# Altium schematic symbol library ToradexMainBoard-V0I1.SCHLIB: 303 symbols (part 7 of 14)
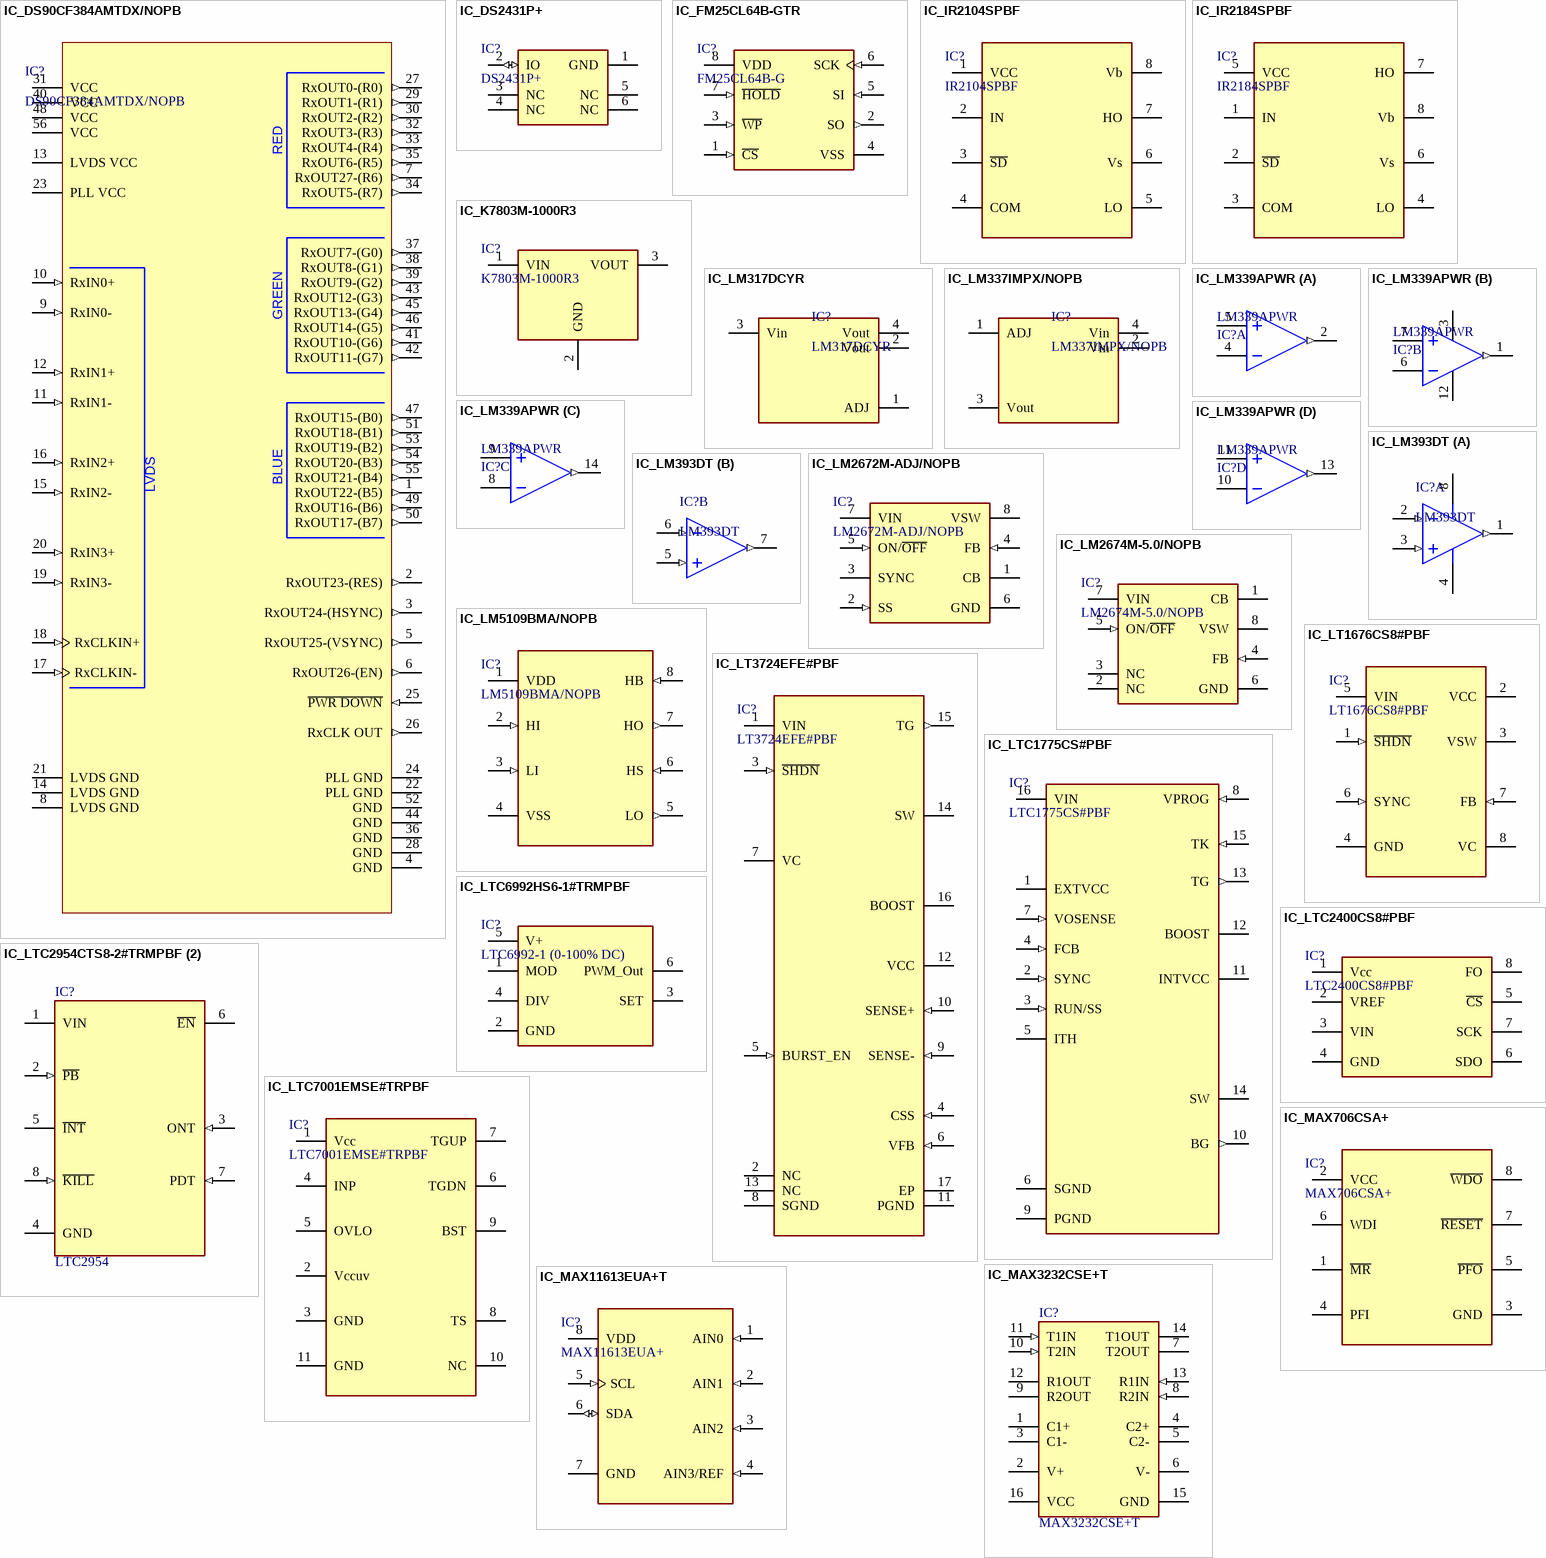
[diagram p21: symbols IC_DS90CF384AMTDX/NOPB to IC_MAX11613EUA+T]

## IC_FM25CL64B-GTR
designator IC?, comment FM25CL64B-G
NVRAM FRAM Serial-SPI 64K-Bit 3V/3.3V 8-Pin SOIC T/R; Manufacturer: Cypress; Manufacturer Part Number: FM25CL64B-GTR; Interface: SPI,Serial; Density: 64Kb; Operating Supply Voltage: 3.3V; Memory Type: RAM,FRAM; Frequency: 20MHz; Data Bus Width: 8b; Max Supply Voltage: 3.65V; Min Supply Voltage: 2.7V; Nominal Supply Current: 3mA; Access Time: 20ns; Organization: 8KX8; Supplier 1: Mouser; RoHS: Yes; Category: Memory; Mount: Surface Mount; Case/Package: SOIC; Number of Pins: 8; Contact Plating: Tin,Matte; Min Operating Temperature: -40°C; Max Operating Temperature: 85°C; Packaging: Tape and Reel; Package Quantity: 2500; Memory Size: 64KB; Supply Current: 3mA; Word Size: 8b; Series: -; Access Time-Max: 20ns; Supply Voltage-Nom: 3.65V; Radiation Hardening: No; Lead Free: Lead Free; RoHS Compliant: Yes; ComponentLink1URL: https://datasheet.ciiva.com/15125/getdatasheetpartid-702869-15125206.pdf?src-supplier=Verical; ComponentLink1Description: https://datasheet.ciiva.com/15125/getdatasheetpartid-702869-15125206.pdf?src-supplier=Verical; ComponentLink2URL: https://datasheet.ciiva.com/12095/fm25cl64b-001-84477-0e-v-477223-12095418.pdf?src-supplier=Mouser; ComponentLink2Description: https://datasheet.ciiva.com/12095/fm25cl64b-001-84477-0e-v-477223-12095418.pdf?src-supplier=Mouser; ComponentLink3URL: https://datasheet.ciiva.com/6616/docid-47959-6616076.pdf?src-supplier=Digi-Key; ComponentLink3Description: https://datasheet.ciiva.com/6616/docid-47959-6616076.pdf?src-supplier=Digi-Key; Supplier Part Number 1: 877-FM25CL64B-GTR
footprint FM25CL64B-SOIC8
pins: 1 ~{CS} (in), 2 SO (out), 3 ~{WP} (in), 4 VSS (power), 5 SI (in), 6 SCK (in), 7 ~{HOLD} (in), 8 VDD (power)

## IC_IR2104SPBF
designator IC?, comment IR2104SPBF
INFINEON - IR2104SPBF - IC, MOSFET-TREIBER, HIGH/LOW-SIDE SOIC-8; Manufacturer: International Rectifier; Number of Outputs: 2; Min Supply Voltage: 10V; Max Supply Voltage: 20V; Max Power Dissipation: 625mW; Turn-On Delay Time: 60ns; Max Supply Current: 270uA; Max Output Current: 360mA; Output Voltage: 620V; Rise Time: 170ns; Propagation Delay: 820ns; Nominal Supply Current: 150uA; Fall Time: 90ns; Turn-Off Delay Time: 220ns; Supplier 1: Farnell; Manufacturer Part Number: IR2104SPBF; RoHS: Yes; Category: Gate Drivers; Stock 1: 577; Pricing 1: 1=1,69000, 25=1,59000, 50=1,41000, 100=1,22000, 250=1,11000, 500=1,08000, 1000=0,92200, 2500=0,90400 (EUR); Mount: Surface Mount; Case/Package: SOIC; Number of Pins: 8; Min Operating Temperature: -40°C; Max Operating Temperature: 125°C; Packaging: Rail/Tube; Package Quantity: 95; Output Current: 360mA; Number of Drivers: 2; Power Dissipation: 625mW; Max Output Voltage: 20V; Min Output Voltage: 10V; Termination: SMD/SMT; Length: 5mm; Width: 4mm; Height: 1.5mm; Radiation Hardening: No; REACH SVHC: No SVHC; Lead Free: Lead Free; ComponentLink1URL: https://datasheet.ciiva.com/26879/ir2104spbf-26879345.pdf?src-supplier=IIIC; ComponentLink1Description: https://datasheet.ciiva.com/26879/ir2104spbf-26879345.pdf?src-supplier=IIIC; ComponentLink2URL: https://datasheet.ciiva.com/1952/ir2104-1952453.pdf?src-supplier=Digi-Key; ComponentLink2Description: https://datasheet.ciiva.com/1952/ir2104-1952453.pdf?src-supplier=Digi-Key; ComponentLink3URL: https://datasheet.ciiva.com/1499/59961-1499395.pdf?src-supplier=Element14; ComponentLink3Description: https://datasheet.ciiva.com/1499/59961-1499395.pdf?src-supplier=Element14; Supplier Part Number 1: 8638756
footprint IR2104_SOIC8
pins: 1 VCC (power) "Power Supply Input: 2.7V to 26.4V", 2 IN (power) "Power Supply Input: 2.7V to 26.4V", 3 ~{SD} (power) "Power Supply Input: 2.7V to 26.4V", 4 COM (power) "Power Supply Input: 2.7V to 26.4V", 5 LO (power) "Power Supply Input: 2.7V to 26.4V", 6 Vs (power) "Power Supply Input: 2.7V to 26.4V", 7 HO (power) "Power Supply Input: 2.7V to 26.4V", 8 Vb (power) "Power Supply Input: 2.7V to 26.4V"

## IC_IR2184SPBF
designator IC?, comment IR2184SPBF
Driver 600V 2.3A 2-OUT Hi/Lo Side Half Brdg Inv/Non-Inv 8-Pin SOIC; Manufacturer: International Rectifier; Number of Outputs: 2; Max Supply Voltage: 20V; Min Supply Voltage: 10V; Max Power Dissipation: 625mW; Turn-On Delay Time: 90ns; Turn-Off Delay Time: 40ns; Max Supply Current: 1.6mA; Propagation Delay: 900ns; Rise Time: 60ns; Output Current: 1.9A; Fall Time: 35ns; Output Voltage: 620V; Supplier 1: Farnell; Manufacturer Part Number: IR2184SPBF; RoHS: Yes; Category: Gate Drivers; Stock 1: 584; Pricing 1: 1=3,18000, 10=2,39000, 25=2,25000, 50=2,10000, 100=1,96000, 250=1,76000, 500=1,69000, 1000=1,44000 (EUR); Mount: Surface Mount; Case/Package: SOIC; Number of Pins: 8; Min Operating Temperature: -40°C; Max Operating Temperature: 125°C; Packaging: Rail/Tube; Package Quantity: 95; Number of Drivers: 2; Power Dissipation: 625mW; Max Output Current: 2.3A; Nominal Supply Current: 1.6mA; Max Output Voltage: 20V; Min Output Voltage: 10V; Termination: SMD/SMT; Length: 5mm; Width: 4mm; Height: 1.5mm; Radiation Hardening: No; Lead Free: Lead Free; REACH SVHC: No SVHC; ComponentLink1URL: https://datasheet.ciiva.com/1952/ir2184-1952950.pdf?src-supplier=Digi-Key; ComponentLink1Description: https://datasheet.ciiva.com/1952/ir2184-1952950.pdf?src-supplier=Digi-Key; ComponentLink2URL: https://datasheet.ciiva.com/1499/60017-1499709.pdf?src-supplier=Element14; ComponentLink2Description: https://datasheet.ciiva.com/1499/60017-1499709.pdf?src-supplier=Element14; Supplier Part Number 1: 8639051
footprint IR2184_SOIC8
pins: 1 IN (power) "Power Supply Input: 2.7V to 26.4V", 2 ~{SD} (power) "Power Supply Input: 2.7V to 26.4V", 3 COM (power) "Power Supply Input: 2.7V to 26.4V", 4 LO (power) "Power Supply Input: 2.7V to 26.4V", 5 VCC (power) "Power Supply Input: 2.7V to 26.4V", 6 Vs (power) "Power Supply Input: 2.7V to 26.4V", 7 HO (power) "Power Supply Input: 2.7V to 26.4V", 8 Vb (power) "Power Supply Input: 2.7V to 26.4V"

## IC_K7803M-1000R3
designator IC?, comment K7803M-1000R3
Nichtisoliertes PoL-Modul DC/DC-Wandler 1 Ausgang 3,3V 1A 6V - 36V Eingang
footprint IC_K7803M-1000R3_THT (Pin Header, pitch 2.54 mm, THT, Vertical, single row, 3p)
pins: 1 VIN (power) "A-side supplyVoltage (0.9V to VCCB - 1V)", 2 GND (power) "Supply ground", 3 VOUT (power) "B-side and device supplyVoltage (2.7V to 5.5V)"

## IC_LM317DCYR
designator IC?, comment LM317DCYR
TEXAS INSTRUMENTS - LM317DCYR - LINEAR VOLT REG, 1.5A, 1.25V-37V, SOT223; Number of Outputs: 1; Min Input Voltage: 4.2V; Output Voltage: 37V; Max Input Voltage: 40V; Polarity: Positive; Reference Voltage: 1.3V; Power Supply Rejection Ratio (PSRR): 64dB; Quiescent Current: 3.5mA; Output Type: Adjustable; Min Output Voltage: 1.25V; Dropout Voltage: 2V; Supplier 1: Mouser; Manufacturer: Texas Instruments; Manufacturer Part Number: LM317DCYR; RoHS: Yes; Category: Voltage Regulators - Linear; Stock 1: 625; Mount: Surface Mount; Case/Package: SOT-223; Number of Pins: 4; Weight: 0.006632oz; Contact Plating: Tin,Matte; Min Operating Temperature: 0°C; Max Operating Temperature: 125°C; Packaging: Tape and Reel; Output Current: 1.5A; Max Output Current: 1.5A; Package Quantity: 1; Number of Regulators: 1; Max Output Voltage: 37V; Length: 6.5mm; Width: 3.5mm; Height: 1.6mm; Radiation Hardening: No; Lead Free: Lead Free; RoHS Compliant: Yes; REACH SVHC: No SVHC; ComponentLink1URL: https://datasheet.ciiva.com/2042/lm317-2042144.pdf?src-supplier=Digi-Key; ComponentLink1Description: https://datasheet.ciiva.com/2042/lm317-2042144.pdf?src-supplier=Digi-Key; ComponentLink2URL: https://datasheet.ciiva.com/4882/slvs044u-120651-4882417.pdf?src-supplier=Mouser; ComponentLink2Description: https://datasheet.ciiva.com/4882/slvs044u-120651-4882417.pdf?src-supplier=Mouser; ComponentLink3URL: https://datasheet.ciiva.com/41458/001014031-da-01-en-ic-reg-adj-1-5a-lm317dcyr-sot-223-4-tid-41458183.pdf?src-supplier=Conrad; ComponentLink3Description: https://datasheet.ciiva.com/41458/001014031-da-01-en-ic-reg-adj-1-5a-lm317dcyr-sot-223-4-tid-41458183.pdf?src-supplier=Conrad; ComponentLink4URL: https://datasheet.ciiva.com/2042/lm317-2042145.pdf?src-supplier=Digi-Key; ComponentLink4Description: https://datasheet.ciiva.com/2042/lm317-2042145.pdf?src-supplier=Digi-Key; ComponentLink5URL: https://datasheet.ciiva.com/2042/lm317-2042146.pdf?src-supplier=Digi-Key; ComponentLink5Description: https://datasheet.ciiva.com/2042/lm317-2042146.pdf?src-supplier=Digi-Key; ComponentLink6URL: https://datasheet.ciiva.com/46385/1885815-46385689.pdf?src-supplier=Element14; ComponentLink6Description: https://datasheet.ciiva.com/46385/1885815-46385689.pdf?src-supplier=Element14; Supplier Part Number 1: 595-LM317DCYR
footprint LM317DCYR_SOT-223
pins: 1 ADJ (power) "A-side supplyVoltage (0.9V to VCCB - 1V)", 2 Vout (power) "Supply ground", 3 Vin (power) "B-side and device supplyVoltage (2.7V to 5.5V)", 4 Vout (power) "B-side and device supplyVoltage (2.7V to 5.5V)"

## IC_LM337IMPX/NOPB
designator IC?, comment LM337IMPX/NOPB
Standard Regulator Neg -1.2V to -37V 1A 4-Pin(3+Tab) SOT-223 T/R; Manufacturer: TI National Semiconductor; Max Power Dissipation: 2W; Number of Outputs: 1; Max Input Voltage: -50V; Min Input Voltage: -4.2V; Polarity: Negative; Reference Voltage: -1.287V; Output Type: Adjustable; Min Current Limit: 1.5A; Quiescent Current: 3mA; Dropout Voltage: 2.4V; Power Supply Rejection Ratio (PSRR): 77dB; Supplier 1: Mouser; Manufacturer Part Number: LM337IMPX/NOPB; RoHS: Yes; Category: Voltage Regulators - Linear; Stock 1: 3007; Mount: Surface Mount; Case/Package: SOT-223; Number of Pins: 4; Weight: 0.006632oz; Contact Plating: Tin,Matte; Min Operating Temperature: -40°C; Max Operating Temperature: 125°C; Output Voltage: -37V; Max Output Current: 1A; Packaging: Tape and Reel; Output Current: 1A; Number of Regulators: 1; Power Dissipation: 2W; Min Output Voltage: -37V; Max Output Voltage: -1.2V; Series: LM337-N; Radiation Hardening: No; Lead Free: Lead Free; REACH SVHC: No SVHC; RoHS Compliant: Yes; ComponentLink1URL: https://datasheet.ciiva.com/6580/lm137-6580213.pdf?src-supplier=Digi-Key; ComponentLink1Description: https://datasheet.ciiva.com/6580/lm137-6580213.pdf?src-supplier=Digi-Key; ComponentLink2URL: https://datasheet.ciiva.com/15222/getdatasheetpartid-55431-15222917.pdf?src-supplier=Verical; ComponentLink2Description: https://datasheet.ciiva.com/15222/getdatasheetpartid-55431-15222917.pdf?src-supplier=Verical; ComponentLink3URL: https://datasheet.ciiva.com/3225/lm137-3225386.pdf?src-supplier=Avnet; ComponentLink3Description: https://datasheet.ciiva.com/3225/lm137-3225386.pdf?src-supplier=Avnet; ComponentLink4URL: https://datasheet.ciiva.com/46419/1772306-46419371.pdf?src-supplier=Element14; ComponentLink4Description: https://datasheet.ciiva.com/46419/1772306-46419371.pdf?src-supplier=Element14; Supplier Part Number 1: 926-LM337IMPX/NOPB
footprint LM337IMPX_SOT-223
pins: 1 ADJ (power) "A-side supplyVoltage (0.9V to VCCB - 1V)", 2 Vin (power) "Supply ground", 3 Vout (power) "B-side and device supplyVoltage (2.7V to 5.5V)", 4 Vin (power) "B-side and device supplyVoltage (2.7V to 5.5V)"

## IC_LM339APWR
designator IC?, comment LM339APWR
IC QUAD DIFF COMPARATOR 14-TSSOP; Manufacturer: Texas Instruments; Output Current: 20mA; Dual Supply Voltage: 9V; Operating Supply Voltage: 28V; Input Bias Current: 250nA; Output Type: TTL; Supply Current: 2mA; Max Dual Supply Voltage: 15V; Max Supply Current: 500uA; Output Current per Channel: 6mA; Number of Elements: 4; Voltage Gain: 106.02dB; Response Time: 1.3us; Min Supply Voltage: 2V; Quiescent Current: 2.5mA; Min Dual Supply Voltage: 1V; Output Compatibility: CMOS; Max Supply Voltage: 30V; Input Offset Voltage (Vos): 3mV; Lead Free: Lead Free; Radiation Hardening: No; REACH SVHC: No SVHC; Max Operating Temperature: 70°C; Max Input Current: 250nA; Packaging: Tape and Reel; Mount: Surface Mount; Height: 1.15mm; Case/Package: TSSOP; Nominal Supply Current: 2mA; Length: 5mm; Min Operating Temperature: 0°C; RoHS Compliant: Yes; Number of Channels: 4; Weight: 0.002018oz; Technology: BIPOLAR; Contact Plating: Gold; Width: 4.4mm; Series: LM339A; Package Quantity: 2000; Number of Pins: 14; Supplier 1: Mouser; Manufacturer Part Number: LM339APWR; RoHS: Yes; Category: Comparators; ComponentLink1URL: https://datasheet.ciiva.com/15131/getdatasheetpartid-301063-15131173.pdf?src-supplier=Verical; ComponentLink1Description: https://datasheet.ciiva.com/15131/getdatasheetpartid-301063-15131173.pdf?src-supplier=Verical; ComponentLink2URL: https://datasheet.ciiva.com/23702/1762850-23702272.pdf?src-supplier=Newark; ComponentLink2Description: https://datasheet.ciiva.com/23702/1762850-23702272.pdf?src-supplier=Newark; ComponentLink3URL: https://datasheet.ciiva.com/1827/lm139a-1827234.pdf?src-supplier=Digi-Key; ComponentLink3Description: https://datasheet.ciiva.com/1827/lm139a-1827234.pdf?src-supplier=Digi-Key; ComponentLink4URL: https://datasheet.ciiva.com/1827/lm139a-1827235.pdf?src-supplier=Digi-Key; ComponentLink4Description: https://datasheet.ciiva.com/1827/lm139a-1827235.pdf?src-supplier=Digi-Key; ComponentLink5URL: https://datasheet.ciiva.com/1827/lm139a-1827236.pdf?src-supplier=Digi-Key; ComponentLink5Description: https://datasheet.ciiva.com/1827/lm139a-1827236.pdf?src-supplier=Digi-Key; ComponentLink6URL: https://datasheet.ciiva.com/22657/1874704-22657660.pdf?src-supplier=Element14; ComponentLink6Description: https://datasheet.ciiva.com/22657/1874704-22657660.pdf?src-supplier=Element14; ComponentLink7URL: https://datasheet.ciiva.com/2970/lm2901-2970482.pdf?src-supplier=Avnet; ComponentLink7Description: https://datasheet.ciiva.com/2970/lm2901-2970482.pdf?src-supplier=Avnet; Supplier Part Number 1: 595-LM339APWR
footprint LM339APWR_TSSOP14
part A pins: 2 2OUT (out), 4 2IN- (hiz), 5 2IN+ (hiz)
part B pins: 1 1OUT (out), 3 VCC (power), 6 1IN- (hiz), 7 1IN+ (hiz), 12 GND (power)
part C pins: 8 3IN- (hiz), 9 3IN+ (hiz), 14 OUT3 (out)
part D pins: 10 4IN- (hiz), 11 4IN+ (hiz), 13 OUT4 (out)

## IC_LM393DT
designator IC?, comment LM393DT
Comparator Dual 18V/36V 8-Pin SO N T/R; Manufacturer: STMicroelectronics; Voltage - Supply, Single/Dual (±): 2V~36V,±1V~18V; Current - Input Bias (Max): 0.25µA@5V; Number of Elements: 2; Current - Output (Typ): 18mA@5V; Other Names: 497-1593-2; Voltage - Input Offset (Max): 5mV@30V; Output Type: CMOS,DTL,ECL,MOS,Open-Collector,TTL; EDA / CAD Models: DownloadfromAcceleratedDesigns; Other Related Documents: LM393ViewAllSpecificationsLM393ViewAllSpecifications; Online Catalog: Comparators-2elements; Current - Quiescent (Max): 2.5mA; Nominal Supply Current: 1mA; Voltage Gain: 106.02dB; Min Supply Voltage: 2V; Max Supply Voltage: 36V; Min Dual Supply Voltage: 1V; Max Dual Supply Voltage: 18V; Output Current: 18mA; Input Offset Voltage (Vos): 5mV; Input Bias Current: 250nA; Response Time: 1.3us; Operating Supply Voltage: 28V; Dual Supply Voltage: 9V; Max Power Dissipation: 710mW; Natural Thermal Resistance: 125°C/W; Standard Package: 2,500; Manufacturer URL: http://www.st.com/; Package Description: 8-Pin Small Outline Integrated Circuit, Body 4.9 x 3.9 mm, Pitch 1.27 mm; Packaging: Tape&Reel(TR); Datasheet Version: Rev. 15, 02/2016; Category: IntegratedCircuits(ICs); Operating Temperature: 0°C~70°C; Mounting Type: SurfaceMount; Supplier Device Package: 8-SO; Datasheet URL: http://www.st.com/content/ccc/resource/technical/document/datasheet/group1/b4/cc/cf/13/18/28/44/f5/CD00000465/files/CD00000465.pdf/jcr:content/translations/en.CD00000465.pdf; Family: Linear-Comparators; Mounting Technology: SurfaceMount; Type: GeneralPurpose; Package Reference: SO-8; Package / Case: 8-SOIC(0.154",3.90mmWidth); Supplier 1: Farnell; Manufacturer Part Number: LM393DT; RoHS: Yes; Pricing 1: 5=0,28900, 50=0,21300, 100=0,13900, 500=0,11900, 1000=0,09910 (EUR); Mount: Surface Mount; Case/Package: SO; Number of Pins: 8; Weight: 0.01787oz; Contact Plating: Gold; Min Operating Temperature: 0°C; Max Operating Temperature: 70°C; Number of Channels: 2; Quiescent Current: 2.5mA; Package Quantity: 2500; Max Supply Current: 1mA; Output Current per Channel: 18mA; Max Input Current: 250nA; Series: LM393; Propagation Delay: 1.3us; Turn-On Delay Time: 1.3us; Length: 4.9mm; Width: 3.9mm; Height: 1.25mm; Radiation Hardening: No; REACH SVHC: No SVHC; Lead Free: Lead Free; RoHS Compliant: Yes; ComponentLink1URL: https://datasheet.ciiva.com/15131/getdatasheetpartid-302604-15131176.pdf?src-supplier=Verical; ComponentLink1Description: https://datasheet.ciiva.com/15131/getdatasheetpartid-302604-15131176.pdf?src-supplier=Verical; ComponentLink2URL: https://datasheet.ciiva.com/14153/lm393-st-tds-eng-14153514.pdf?src-supplier=Distrelec; ComponentLink2Description: https://datasheet.ciiva.com/14153/lm393-st-tds-eng-14153514.pdf?src-supplier=Distrelec; ComponentLink3URL: https://datasheet.ciiva.com/26859/lm393dt-26859249.pdf?src-supplier=IIIC; ComponentLink3Description: https://datasheet.ciiva.com/26859/lm393dt-26859249.pdf?src-supplier=IIIC; ComponentLink4URL: https://datasheet.ciiva.com/1827/cd00000465-1827142.pdf?src-supplier=Digi-Key; ComponentLink4Description: https://datasheet.ciiva.com/1827/cd00000465-1827142.pdf?src-supplier=Digi-Key; ComponentLink5URL: https://datasheet.ciiva.com/1827/cd00000465-1827143.pdf?src-supplier=Digi-Key; ComponentLink5Description: https://datasheet.ciiva.com/1827/cd00000465-1827143.pdf?src-supplier=Digi-Key; ComponentLink6URL: https://datasheet.ciiva.com/1827/cd00000465-1827144.pdf?src-supplier=Digi-Key; ComponentLink6Description: https://datasheet.ciiva.com/1827/cd00000465-1827144.pdf?src-supplier=Digi-Key; ComponentLink7URL: https://datasheet.ciiva.com/2970/cd00000465-2970521.pdf?src-supplier=Avnet; ComponentLink7Description: https://datasheet.ciiva.com/2970/cd00000465-2970521.pdf?src-supplier=Avnet; ComponentLink8URL: https://datasheet.ciiva.com/4463/cd00000465-4463849.pdf?src-supplier=Mouser; ComponentLink8Description: https://datasheet.ciiva.com/4463/cd00000465-4463849.pdf?src-supplier=Mouser; ComponentLink9URL: https://datasheet.ciiva.com/8067/1689826-8067369.pdf?src-supplier=Element14; ComponentLink9Description: https://datasheet.ciiva.com/8067/1689826-8067369.pdf?src-supplier=Element14; ComponentLink10URL: https://datasheet.ciiva.com/1483/1689826-1483069.pdf?src-supplier=Element14; ComponentLink10Description: https://datasheet.ciiva.com/1483/1689826-1483069.pdf?src-supplier=Element14; ComponentLink11URL: https://datasheet.ciiva.com/16387/cd00000465-16387359.pdf?src-supplier=Future+Electronics; ComponentLink11Description: https://datasheet.ciiva.com/16387/cd00000465-16387359.pdf?src-supplier=Future+Electronics; ComponentLink12URL: https://datasheet.ciiva.com/28649/1689826-28649295.pdf?src-supplier=Element14; ComponentLink12Description: https://datasheet.ciiva.com/28649/1689826-28649295.pdf?src-supplier=Element14; Supplier Part Number 1: 2382619
footprint LM393DT_SOIC8
part A pins: 1 OUT1 (out), 2 IN1- (in), 3 IN1+ (in), 4 -, 8 +
part B pins: 5 IN2+ (in), 6 IN2- (in), 7 OUT2 (out)

## IC_LM2672M-ADJ/NOPB
designator IC?, comment LM2672M-ADJ/NOPB
STEP-DOWN REGULATOR, 8-SOIC; Input Voltage Min:6.5V; Input Voltage Max:40V; No. of Outputs:1; DC / DC Converter IC Case:SOIC; No. of Pins:8; Output Current:1A; Output Voltage Min:1.21V; Output Voltage Max:37V; Packaging:Cut Tape ;RoHS Compliant: Yes; Manufacturer: TI National Semiconductor; Number of Outputs: 1; Output Voltage: 37V; Max Output Current: 1A; Min Input Voltage: 8V; Max Input Voltage: 40V; Efficiency: 90%; Switching Frequency: 260kHz; Min Output Voltage: 1.21V; Quiescent Current: 2.5mA; Output Type: Adjustable; Supplier 1: Farnell; Manufacturer Part Number: LM2672M-ADJ/NOPB; RoHS: Yes; Category: Voltage Regulators - Switching; Stock 1: 1319; Pricing 1: 1=5,11000, 10=4,12000, 25=3,89000, 50=3,55000, 100=3,20000, 250=2,87000, 500=2,76000 (EUR); Mount: Surface Mount; Case/Package: SOIC; Number of Pins: 8; Contact Plating: Tin,Matte; Min Operating Temperature: -40°C; Max Operating Temperature: 125°C; Packaging: Rail/Tube; Output Current: 1A; Package Quantity: 95; Max Output Voltage: 37V; Operating Supply Voltage: 40V; Voltage: 37V; Length: 4.9mm; Width: 3.9mm; Height: 1.45mm; Radiation Hardening: No; REACH SVHC: No SVHC; Lead Free: Lead Free; ComponentLink1URL: https://datasheet.ciiva.com/15112/getdatasheetpartid-112288-15112920.pdf?src-supplier=Verical; ComponentLink1Description: https://datasheet.ciiva.com/15112/getdatasheetpartid-112288-15112920.pdf?src-supplier=Verical; ComponentLink2URL: https://datasheet.ciiva.com/27056/2050853-27056488.pdf?src-supplier=Jameco; ComponentLink2Description: https://datasheet.ciiva.com/27056/2050853-27056488.pdf?src-supplier=Jameco; ComponentLink3URL: https://datasheet.ciiva.com/6596/lm2672-6596346.pdf?src-supplier=Digi-Key; ComponentLink3Description: https://datasheet.ciiva.com/6596/lm2672-6596346.pdf?src-supplier=Digi-Key; ComponentLink4URL: https://datasheet.ciiva.com/14150/ea648506-648507-e-14150669.pdf?src-supplier=Distrelec; ComponentLink4Description: https://datasheet.ciiva.com/14150/ea648506-648507-e-14150669.pdf?src-supplier=Distrelec; Supplier Part Number 1: 3121530
footprint LM2672-SOIC8 (SOIC, 8-Leads, Body 5x4mm, Pitch 1.27mm, IPC Medium Density)
pins: 1 CB, 2 SS (in), 3 SYNC, 4 FB (in), 5 ON/~{OFF} (in), 6 GND (power), 7 VIN (power), 8 VSW (power)

## IC_LM2674M-5.0/NOPB
designator IC?, comment LM2674M-5.0/NOPB
Conv DC-DC Single Step Down 8V to 40V 8-Pin SOIC Tube; Manufacturer: TI National Semiconductor; Switching Frequency: 275kHz; Output Voltage: 5V; Number of Outputs: 1; Max Output Current: 500mA; Efficiency: 90%; Quiescent Current: 2.5mA; Voltage: 45V; Output Type: Fixed; Supplier 1: Mouser; Manufacturer Part Number: LM2674M-5.0/NOPB; RoHS: Yes; Category: Voltage Regulators - Switching; Stock 1: 1535; Mount: Surface Mount; Case/Package: SOIC N; Number of Pins: 8; Contact Plating: Tin,Matte; Min Operating Temperature: -40°C; Max Operating Temperature: 125°C; Min Input Voltage: 8V; Max Input Voltage: 40V; Operating Supply Voltage: 40V; Output Current: 500mA; Packaging: Rail/Tube; Package Quantity: 95; Nominal Output Voltage: 5V; Length: 4.9mm; Width: 3.9mm; Height: 1.45mm; Radiation Hardening: No; REACH SVHC: No SVHC; Lead Free: Lead Free; RoHS Compliant: Yes; ComponentLink1URL: https://datasheet.ciiva.com/16536/lm2674-16536134.pdf?src-supplier=Avnet+Asia; ComponentLink1Description: https://datasheet.ciiva.com/16536/lm2674-16536134.pdf?src-supplier=Avnet+Asia; ComponentLink2URL: https://datasheet.ciiva.com/6596/lm2674-6596604.pdf?src-supplier=Digi-Key; ComponentLink2Description: https://datasheet.ciiva.com/6596/lm2674-6596604.pdf?src-supplier=Digi-Key; Supplier Part Number 1: 926-LM2674M-5.0/NOPB
footprint LM2674M_SOIC8
pins: 1 CB, 2 NC, 3 NC, 4 FB (in), 5 ON/~{OFF} (in), 6 GND (power), 7 VIN (power), 8 VSW (power)

## IC_LM5109BMA/NOPB
designator IC?, comment LM5109BMA/NOPB
1-A, 100-V half bridge gate driver with 8-V UVLO and high noise immunity 8-SOIC -40 to 125; Manufacturer: TI National Semiconductor; Number of Outputs: 2; Max Supply Voltage: 14V; Min Supply Voltage: 8V; Rise Time: 15ns; Output Current: 1A; Nominal Supply Current: 1.8mA; Propagation Delay: 32ns; Turn-Off Delay Time: 2ns; Quiescent Current: 200uA; Supplier 1: Mouser; Manufacturer Part Number: LM5109BMA/NOPB; RoHS: Yes; Category: Gate Drivers; Stock 1: 861; Pricing 1: 1=1,25000, 10=1,13000, 50=1,07000, 100=0,87500, 1000=0,72200, 10000=0,55200, 1=1,06000, 10=0,95700, 25=0,90600, 95=0,74100 (USD); Mount: Surface Mount; Case/Package: SOIC; Number of Pins: 8; Min Operating Temperature: -40°C; Max Operating Temperature: 125°C; Packaging: Rail/Tube; Package Quantity: 95; Max Output Current: 1A; Number of Drivers: 2; Fall Time: 15ns; Turn-On Delay Time: 2ns; Number of Channels: 2; Length: 4.9mm; Width: 3.9mm; Height: 1.45mm; Radiation Hardening: No; RoHS Compliant: Yes; REACH SVHC: No SVHC; Lead Free: Lead Free; ComponentLink1URL: https://datasheet.ciiva.com/1601/72331-1601500.pdf?src-supplier=Newark; ComponentLink1Description: https://datasheet.ciiva.com/1601/72331-1601500.pdf?src-supplier=Newark; ComponentLink2URL: https://datasheet.ciiva.com/1496/1850947-1496300.pdf?src-supplier=Element14; ComponentLink2Description: https://datasheet.ciiva.com/1496/1850947-1496300.pdf?src-supplier=Element14; ComponentLink3URL: https://datasheet.ciiva.com/6612/lm5109b-6612222.pdf?src-supplier=Digi-Key; ComponentLink3Description: https://datasheet.ciiva.com/6612/lm5109b-6612222.pdf?src-supplier=Digi-Key; Supplier Part Number 1: 926-LM5109BMA/NOPB
footprint IC_LM5109B-SOIC8
pins: 1 VDD (power), 2 HI (in), 3 LI (in), 4 VSS (power), 5 LO (out), 6 HS (in), 7 HO (out), 8 HB (in)

## IC_LT1676CS8#PBF
designator IC?, comment LT1676CS8#PBF
IC REG BUCK ADJ 0.55A 8SOIC; Manufacturer: Analog Devices / Linear Technology; Output Voltage: 51V; Output Current: 700mA; Number of Outputs: 1; Synchronous Rectifier: No; Output Type: Adjustable; Switching Frequency: 100kHz; Min Input Voltage: 7.4V; Max Input Voltage: 60V; Max Output Current: 1A; Min Output Voltage: 1.24V; Supplier 1: Mouser; Manufacturer Part Number: LT1676CS8#PBF; RoHS: Yes; Category: Voltage Regulators - Switching; Stock 1: 1339; Case/Package: SOIC; Number of Pins: 8; Min Operating Temperature: 0°C; Max Operating Temperature: 125°C; Package Quantity: 100; Packaging: Cut Tape; Max Output Voltage: 51V; Length: 5mm; Width: 3.988mm; Height: 1.498mm; Lead Free: Lead Free; REACH SVHC: No SVHC; ComponentLink1URL: https://datasheet.ciiva.com/14150/uclt1676-e-14150834.pdf?src-supplier=Distrelec; ComponentLink1Description: https://datasheet.ciiva.com/14150/uclt1676-e-14150834.pdf?src-supplier=Distrelec; ComponentLink2URL: https://datasheet.ciiva.com/30477/0900766b81222ba8-30477663.pdf?src-supplier=RSComponents; ComponentLink2Description: https://datasheet.ciiva.com/30477/0900766b81222ba8-30477663.pdf?src-supplier=RSComponents; ComponentLink3URL: https://datasheet.ciiva.com/29306/157632-da-01-en-ic-lt-1676-cs-8-sekundaer-regler-so8-29306806.pdf?src-supplier=Conrad; ComponentLink3Description: https://datasheet.ciiva.com/29306/157632-da-01-en-ic-lt-1676-cs-8-sekundaer-regler-so8-29306806.pdf?src-supplier=Conrad; ComponentLink4URL: https://datasheet.ciiva.com/7959/1563032-7959848.pdf?src-supplier=Element14; ComponentLink4Description: https://datasheet.ciiva.com/7959/1563032-7959848.pdf?src-supplier=Element14; ComponentLink5URL: https://datasheet.ciiva.com/6185/1563032-6185343.pdf?src-supplier=Farnell; ComponentLink5Description: https://datasheet.ciiva.com/6185/1563032-6185343.pdf?src-supplier=Farnell; ComponentLink6URL: https://datasheet.ciiva.com/2024/2721-2024827.pdf?src-supplier=Digi-Key; ComponentLink6Description: https://datasheet.ciiva.com/2024/2721-2024827.pdf?src-supplier=Digi-Key; ComponentLink7URL: https://datasheet.ciiva.com/7136/1563032-7136429.pdf?src-supplier=Newark; ComponentLink7Description: https://datasheet.ciiva.com/7136/1563032-7136429.pdf?src-supplier=Newark; Supplier Part Number 1: 584-LT1676CS8#PBF
footprint LT1676-SOIC8
pins: 1 ~{SHDN} (in) "When pulled below the shutdown mode threshold, nominally 0.30V, this pin turns off the regulator and reduces VIN input current to a few tens of microamperes (shutdown mode).", 2 VCC (power) "This pin is used to power the internal control circuitry off of the switching supply output. Proper use of this pin enhances overall power supply efficiency. During start-up conditions, internal control circuitry is powered (See Datasheet)", 3 VSW (power) "This is the emitter node of the output switch and has large currents flowing through it. This node moves at a high dV/dt rate, especially when in “boost” mode. Keep the traces to the switching components as short(See Datasheet)", 4 GND (power) "This is the device ground pin. The internal reference and feedback amplifier are referred to it. Keep the ground path connection to the FB divider and the VC compensation capacitor free of large ground currents.", 5 VIN (power) "This is the high voltage supply pin for the output switch. It also supplies power to the internal control circuitry during start-up conditions or if the VCC pin is left open. A high quality bypass capacitor which meets the (See Datasheet)", 6 SYNC (in) "Pin used to synchronize internal oscillator to the external frequency reference. It is directly logic compatible and can be driven with any signal between 10% and 90% duty cycle. The sync function is internally disabled if (See Datasheet)", 7 FB (in) "This is the inverting input to the feedback amplifier. The noninverting input of this amplifier is internally tied to the 1.24V reference. This pin also slows down the frequency of the internal oscillator when its voltage is (See Datasheet)", 8 VC "This is the control voltage pin which is the output of the feedback amplifier and the input of the current comparator. Frequency compensation of the overall loop is effected by placing a capacitor, (or in most cases a series (See Datasheet)"

## IC_LT3724EFE#PBF
designator IC?, comment LT3724EFE#PBF
LINEAR TECHNOLOGY 	   	LT3724EFE#PBF 	   	IC, SWITCHING REGULATOR CTRL, 16-TSSOP; Manufacturer: Analog Devices / Linear Technology; Output Current: 5A; Output Voltage: 36V; Max Supply Voltage: 60V; Min Supply Voltage: 4V; Number of Outputs: 1; Switching Frequency: 225kHz; Duty Cycle: 100%; Rise Time: 60ns; Max Duty Cycle: 99%; Topology: SEPIC; Supplier 1: Mouser; Manufacturer Part Number: LT3724EFE#PBF; RoHS: Yes; Category: Voltage Regulators - Switching; Stock 1: 488; Case/Package: TSSOP; Number of Pins: 16; Min Operating Temperature: -40°C; Max Operating Temperature: 125°C; Package Quantity: 95; Packaging: Rail/Tube; Max Frequency: 225kHz; Fall Time: 60ns; Length: 4.9mm; Width: 4.3mm; Height: 0.95mm; REACH SVHC: No SVHC; Lead Free: Lead Free; ComponentLink1URL: https://datasheet.ciiva.com/19474/1744431-19474006.pdf?src-supplier=Jameco; ComponentLink1Description: https://datasheet.ciiva.com/19474/1744431-19474006.pdf?src-supplier=Jameco; ComponentLink2URL: https://datasheet.ciiva.com/30476/0900766b812525b4-30476603.pdf?src-supplier=RSComponents; ComponentLink2Description: https://datasheet.ciiva.com/30476/0900766b812525b4-30476603.pdf?src-supplier=RSComponents; ComponentLink3URL: https://datasheet.ciiva.com/26893/lt3724efe-pbf-26893190.pdf?src-supplier=IIIC; ComponentLink3Description: https://datasheet.ciiva.com/26893/lt3724efe-pbf-26893190.pdf?src-supplier=IIIC; ComponentLink4URL: https://datasheet.ciiva.com/2019/7198-2019283.pdf?src-supplier=Digi-Key; ComponentLink4Description: https://datasheet.ciiva.com/2019/7198-2019283.pdf?src-supplier=Digi-Key; ComponentLink5URL: https://datasheet.ciiva.com/6192/1684151-6192730.pdf?src-supplier=Farnell; ComponentLink5Description: https://datasheet.ciiva.com/6192/1684151-6192730.pdf?src-supplier=Farnell; ComponentLink6URL: https://datasheet.ciiva.com/7905/1684151-7905901.pdf?src-supplier=Element14; ComponentLink6Description: https://datasheet.ciiva.com/7905/1684151-7905901.pdf?src-supplier=Element14; ComponentLink7URL: https://datasheet.ciiva.com/7363/1684151-7363598.pdf?src-supplier=Newark; ComponentLink7Description: https://datasheet.ciiva.com/7363/1684151-7363598.pdf?src-supplier=Newark; Supplier Part Number 1: 584-LT3724EFE#PBF
footprint LT3724_LT-FE-16-EPV-BC_L (SOP, 16-Leads, Body 5.1x4.5mm, Pitch 0.65mm, Thermal Pad 3.58x2.94mm, IPC High Density)
pins: 1 VIN (power) "The VIN pin is the main supply pin and should be decoupled to SGND with a low ESR capacitor located close to the pin.", 2 NC "No Connection.", 3 ~{SHDN} (in) "The S\H\D\N\ pin has a precision IC enable threshold of 1.35V (rising) with 120mV of hysteresis. It is used to implement an undervoltage lockout (UVLO) circuit. See Application Information section for implementing a UVLO (See Datasheet)", 4 CSS (in) "The soft-start pin is used to program the supply soft-start function. The pin is connected to VOUT via a ceramic capacitor (CSS) and 200kohm series resistor. During start-up, the supply output voltage slew rate is controlled (See Datasheet)", 5 BURST_EN (in) "The BURST_EN pin is used to enable or disable Burst Mode operation. Connect the BURST_EN pin to ground to enable the burst mode function. Connect the pin to VCC to disable the burst mode function.", 6 VFB (in) "The output voltage feedback pin, VFB, is externally connected to the supply output voltage via a resistive divider. The VFB pin is internally connected to the inverting input of the error amplifier. In regulation, VFB is 1.(See Datasheet)", 7 VC "The VC pin is the output of the error amplifier whose voltage corresponds to the maximum (peak) switch current per oscillator cycle. The error amplifier is typically configured as an integrator circuit by connecting an RC (See Datasheet)", 8 SGND (power) "The SGND pin is the low noise ground reference. It should be connected to the -VOUT side of the output capacitors. Careful layout of the PCB is necessary to keep high currents away from this SGND connection. See the (See Datasheet)", 9 SENSE- (in) "The SENSE- pin is the negative input for the current sense amplifier and is connected to the VOUT side of the sense resistor for step-down applications. The sensed inductor current limit is set to 150mV across the SENSE (See Datasheet)", 10 SENSE+ (in) "The SENSE+ pin is the positive input for the current sense amplifier and is connected to the inductor side of the sense resistor for step-down applications. The sensed inductor current limit is set to 150mV across the SENSE (See Datasheet)", 11 PGND (power) "The PGND pin is the high-current ground reference for internal low side switch and the VCC regulator circuit. Connect the pin directly to the negative terminal of the VCC decoupling capacitor. See the Application Information (See Datasheet)", 12 VCC (power) "The VCC pin is the internal bias supply decoupling node. Use a low ESR 1uF ceramic capacitor to decouple this node to PGND. Most internal IC functions are powered from this bias supply. An external diode connected from VCC (See Datasheet)", 13 NC "No Connection.", 14 SW "In step-down applications the SW pin is connected to the cathode of an external clamping Schottky diode, the source of the power MOSFET and the inductor. The SW node voltage swing is from VIN during the on-time of the power (See Datasheet)", 15 TG (out) "The TG pin is the bootstrapped gate drive for the top N-Channel MOSFET. Since very fast high currents are driven from this pin, connect it to the gate of the power MOSFET with a short and wide, typically 0.02?width, PC(See Datasheet)", 16 BOOST "The BOOST pin is the supply for the bootstrapped gate drive and is externally connected to a low ESR ceramic boost capacitor referenced to SW pin. The recommended value of the BOOST capacitor, CBOOST, is 50 times greater (See Datasheet)", 17 EP (power) "The exposed leadframe is internally connected to the SGND pin. Solder the exposed pad to the PCB ground for electrical contact and optimal thermal performance."

## IC_LTC1775CS#PBF
designator IC?, comment LTC1775CS#PBF
IC REG CTRLR BUCK/BCK-BST 16SOIC; Manufacturer: Analog Devices / Linear Technology; Switching Frequency: 165kHz; Output Voltage: 36V; Output Current: 20mA; Rise Time: 50ns; Number of Outputs: 1; Duty Cycle: 99%; Topology: Flyback; Min Supply Voltage: 4V; Supplier 1: Mouser; Manufacturer Part Number: LTC1775CS#PBF; RoHS: Yes; Category: Voltage Regulators - Switching; Stock 1: 400; Case/Package: S; Number of Pins: 16; Min Operating Temperature: 0°C; Max Operating Temperature: 70°C; Package Quantity: 50; Max Supply Voltage: 36V; Packaging: Cut Tape; Max Frequency: 165kHz; Fall Time: 50ns; Series: -; Length: 10.01mm; Width: 3.99mm; Height: 1.5mm; Radiation Hardening: No; Lead Free: Lead Free; RoHS Compliant: Yes; REACH SVHC: No SVHC; ComponentLink1URL: https://datasheet.ciiva.com/19457/1754040-19457319.pdf?src-supplier=Jameco; ComponentLink1Description: https://datasheet.ciiva.com/19457/1754040-19457319.pdf?src-supplier=Jameco; ComponentLink2URL: https://datasheet.ciiva.com/15107/getdatasheetpartid-368954-15107066.pdf?src-supplier=Verical; ComponentLink2Description: https://datasheet.ciiva.com/15107/getdatasheetpartid-368954-15107066.pdf?src-supplier=Verical; ComponentLink3URL: https://datasheet.ciiva.com/26892/ltc1775cs-pbf-26892700.pdf?src-supplier=IIIC; ComponentLink3Description: https://datasheet.ciiva.com/26892/ltc1775cs-pbf-26892700.pdf?src-supplier=IIIC; ComponentLink4URL: https://datasheet.ciiva.com/7959/1692385-7959932.pdf?src-supplier=Element14; ComponentLink4Description: https://datasheet.ciiva.com/7959/1692385-7959932.pdf?src-supplier=Element14; Supplier Part Number 1: 584-LTC1775CS#PBF
footprint LTC1775_LT-S-16_L (SOP, 16-Leads, Body 10x4mm, Pitch 1.27mm, IPC High Density)
pins: 1 EXTVCC (power) "INTVCC Switch Input. When the EXTVCC voltage is above 4.7V, the switch closes and supplies INTVCC power from EXTVCC. Do not exceed 7V at this pin.", 2 SYNC (in) "Synchronization Input for Internal Oscillator. The oscillator will nominally run at 150kHz when open, 225kHz when tied above 1.2V, and will lock over a 1.5:1 clock frequency range.", 3 RUN/SS (in) "Run Control and Soft Start Input. A capacitor to ground at this pin sets the ramp time to full current output (approximately 1s/uF). Forcing this pin below 1.4V shuts down the device.", 4 FCB (in) "Forced Continuous Input. Tie this pin to ground to force synchronous operation at low load currents, to a resistive divider from the secondary output when using a secondary winding, or to INTVCC to enable Burst Mode (See Datasheet)", 5 ITH "Error Amplifier Compensation Point. The current comparator threshold increases with this control voltage, forcing inductor current to be roughly proportional to VITH. Nominal voltage range for this pin is 0V to 2.4V.", 6 SGND (power) "Signal Ground. Connect to the (-) terminal of COUT.", 7 VOSENSE (in) "Output Voltage Sense. Feedback input from the remotely sensed output voltage or from an external resistive divider across the output.", 8 VPROG (in) "Output Voltage Programming. When VOSENSE is connected to the output, VPROG < 0.8V selects a 3.3V output and VPROG > 3.5V selects a 5V output.Leaving VPROG open allows the output voltage to be set by an external resistive (See Datasheet)", 9 PGND (power) "Driver Power Ground. Connects to the source of the bottom N channel MOSFET, the (-) terminal of CVCC and the (-) terminal of CIN.", 10 BG (out) "Bottom Gate Drive. Drives the gate of the bottom N-channel MOSFET between ground and INTVCC.", 11 INTVCC (power) "Internal 5.2V Regulator Output. The driver and control circuits are powered from this voltage. Decouple this pin to power ground with a minimum of 4.7uF tantalum or other low ESR capacitor.", 12 BOOST "Topside Floating Driver Supply. The (+) terminal of the bootstrap capacitor connects here. This pin swings from a Schottky diode drop below INTVCC to VIN + INTVCC.", 13 TG (out) "Top Gate Drive. Drives the top N-channel MOSFET with a voltage swing equal to INTVCC superimposed on the switch node voltage.", 14 SW "Switch Node. The (-) terminal of the bootstrap capacitor connects here. This pin swings from a diode drop below ground up to VIN.", 15 TK (in) "Top MOSFET Kelvin Sense. MOSFET VDS sensing requires this pin to be routed to the drain of the top MOSFET separately from VIN.", 16 VIN (power) "Main Supply Input. Decouple this pin to ground with an RC filter (1ohm, 0.1uF) for applications above 3A."

## IC_LTC2400CS8#PBF
designator IC?, comment LTC2400CS8#PBF
Single Channel Single ADC Delta-Sigma 7.5sps 24-bit Serial 8-Pin SOIC N; Manufacturer: Analog Devices / Linear Technology; Interface: SPI,Serial; Number of Bits: 24; Sampling Rate: 7.5S/s; Max Supply Voltage: 5.5V; Min Supply Voltage: 2.7V; Operating Supply Voltage: 5V; Number of Converters: 1; Resolution: 24b; Polarity: Unipolar; Nominal Supply Current: 200uA; Supplier 1: Mouser; Manufacturer Part Number: LTC2400CS8#PBF; RoHS: Yes; Category: Analog to Digital Converters (ADCs); Stock 1: 2578; Mount: Surface Mount; Case/Package: SOIC; Number of Pins: 8; Min Operating Temperature: 0°C; Max Operating Temperature: 70°C; Package Quantity: 100; Packaging: Rail/Tube; Number of Elements: 1; Number of A/D Converters: 1; Supply Type: Single; Length: 5mm; Width: 3.99mm; Height: 1.48mm; Radiation Hardening: No; REACH SVHC: No SVHC; Lead Free: Lead Free; RoHS Compliant: Yes; ComponentLink1URL: https://datasheet.ciiva.com/5784/1605104-5784385.pdf?src-supplier=Farnell; ComponentLink1Description: https://datasheet.ciiva.com/5784/1605104-5784385.pdf?src-supplier=Farnell; ComponentLink2URL: https://datasheet.ciiva.com/14179/hd640425-e-14179932.pdf?src-supplier=Distrelec; ComponentLink2Description: https://datasheet.ciiva.com/14179/hd640425-e-14179932.pdf?src-supplier=Distrelec; ComponentLink3URL: https://datasheet.ciiva.com/26799/ltc2400cs8-pbf-26799612.pdf?src-supplier=IIIC; ComponentLink3Description: https://datasheet.ciiva.com/26799/ltc2400cs8-pbf-26799612.pdf?src-supplier=IIIC; ComponentLink4URL: https://datasheet.ciiva.com/8035/1605104-8035383.pdf?src-supplier=Element14; ComponentLink4Description: https://datasheet.ciiva.com/8035/1605104-8035383.pdf?src-supplier=Element14; ComponentLink5URL: https://datasheet.ciiva.com/6659/1887-6659467.pdf?src-supplier=Digi-Key; ComponentLink5Description: https://datasheet.ciiva.com/6659/1887-6659467.pdf?src-supplier=Digi-Key; ComponentLink6URL: https://datasheet.ciiva.com/15147/getdatasheetpartid-82250-15147451.pdf?src-supplier=Verical; ComponentLink6Description: https://datasheet.ciiva.com/15147/getdatasheetpartid-82250-15147451.pdf?src-supplier=Verical; Supplier Part Number 1: 584-LTC2400CS8#PBF
footprint LTC2400_SOIC8
pins: 1 Vcc "Power Supply Input: 2.7V to 26.4V", 2 VREF "Pushbutton Input. Connecting P\B\ to  ground through a momentary switch provides on/off  control via the EN/E\N\ and I\N\T\ outputs. An internal 100k  pull-up resistor connects to an internal 1.9V bias voltage.  The rugged (See Datasheet)", 3 VIN "Turn-On Time Input. Placing an external  capacitor to ground determines the additional time (6.4  seconds/uF) the P\B\ pin must be held low before the enable  output is asserted. Floating this pin results in a default  turn (See Datasheet)", 4 GND "Device Ground.", 5 ~{CS} "Open Drain Interrupt Output. After a  pushbutton turn-off event is detected (tDB,OFF ), the LTC2954  interrupts the system (uP) by asserting the I\N\T\ pin low.  The uP would perform power-down and housekeeping  tasks and (See Datasheet)", 6 SDO "Open Drain Enable Output.  This pin is intended to enable system power. EN is asserted  high after a valid P\B\ turn-on event (tDB,ON + tONT). EN is  released low if: a) K\I\L\L\ is not driven high (by uP) within  512ms of (See Datasheet)", 7 SCK "Power-Down Time Input. A capacitor  to ground determines the additional time (6.4 seconds/uF)  that the pushbutton must be held low before immediately  releasing the EN/E\N\ and I\N\T\ outputs. Floating this pin  results in (See Datasheet)", 8 FO "Kill Input. Forcing K\I\L\L\ low releases the  enable output. During system turn-on, this pin is blanked by  a 512ms internal timer (tK\I\L\L\,ON BLANK) to allow the system  to pull K\I\L\L\ high. This pin has an accurate 0.(See Datasheet)"

## IC_LTC2954CTS8-2#TRMPBF (2)
designator IC?, comment LTC2954
FIXED IND 22UH 16.4A 7 MOHM TH; Manufacturer: Analog Devices / Linear Technology; Manufacturer Part Number: LTC2954CTS8-2#TRMPBF; Number of Outputs: 2; Max Input Voltage: 26.4V; Min Supply Voltage: 2.7V; Operating Supply Current: 6uA; Max Output Voltage: 33V; Core Material: Ferrite; Tolerance: 15%; DC Resistance (DCR): 7mR; Lead/Base Style: Radial; Shielding: Unshielded; Test Frequency: 1kHz; Lead Diameter: 1.6764mm; Supplier 1: Mouser; RoHS: Yes; Category: Voltage Regulators - Switching; Stock 1: 1; Pricing 1: 1=4,56000, 25=3,03000, 100=2,50000, 250=2,37000, 500=2,17000, 1500=2,11000 (USD); Case/Package: TSOT; Number of Pins: 8; Min Operating Temperature: 0°C; Max Operating Temperature: 70°C; Packaging: Tape and Reel; Max Supply Voltage: 26.4V; Package Quantity: 500; Min Input Voltage: 2.7V; Termination: SMD/SMT; Output Voltage: 33V; Radiation Hardening: No; REACH SVHC: No SVHC; Lead Free: Lead Free; ComponentLink1URL: https://datasheet.ciiva.com/1967/16598-1967280.pdf?src-supplier=Digi-Key; ComponentLink1Description: https://datasheet.ciiva.com/1967/16598-1967280.pdf?src-supplier=Digi-Key; ComponentLink2URL: https://datasheet.ciiva.com/15134/getdatasheetpartid-362334-15134809.pdf?src-supplier=Verical; ComponentLink2Description: https://datasheet.ciiva.com/15134/getdatasheetpartid-362334-15134809.pdf?src-supplier=Verical; ComponentLink3URL: https://datasheet.ciiva.com/1967/16598-1967281.pdf?src-supplier=Digi-Key; ComponentLink3Description: https://datasheet.ciiva.com/1967/16598-1967281.pdf?src-supplier=Digi-Key; ComponentLink4URL: https://datasheet.ciiva.com/6185/1705686-6185478.pdf?src-supplier=Farnell; ComponentLink4Description: https://datasheet.ciiva.com/6185/1705686-6185478.pdf?src-supplier=Farnell; ComponentLink5URL: https://datasheet.ciiva.com/22707/1705686-22707644.pdf?src-supplier=Element14; ComponentLink5Description: https://datasheet.ciiva.com/22707/1705686-22707644.pdf?src-supplier=Element14; ComponentLink6URL: https://datasheet.ciiva.com/1967/16598-1967279.pdf?src-supplier=Digi-Key; ComponentLink6Description: https://datasheet.ciiva.com/1967/16598-1967279.pdf?src-supplier=Digi-Key; Supplier Part Number 1: 584-C2954CTS8-2TMPF; Supplier 2: Farnell; Stock 2: 147; Pricing 2: 1=3,82000, 3=3,28000, 5=2,73000, 10=2,66000, 20=2,37000, 50=1,97000, 250=1,94000 (EUR); Mount: Through Hole,Radial; Inductance: 22uH; Max DC Current: 16.4A; Current Rating: 16.4A; Inductance Tolerance: 15%; DC Current: 16.4A; RMS Current (Irms): 16.4A; Series: 2300; Diameter: 1.28inch; Width: 0.65inch; Depth: 16.51mm; Lead Pitch: 14.22mm; Military Standard: Not; RoHS Compliant: Yes; ComponentLink7URL: https://datasheet.ciiva.com/11798/0900766b80fa5686-11798042.pdf?src-supplier=RSComponents; ComponentLink7Description: https://datasheet.ciiva.com/11798/0900766b80fa5686-11798042.pdf?src-supplier=RSComponents; ComponentLink8URL: https://datasheet.ciiva.com/1052/2300-series-1052929.pdf?src-supplier=Digi-Key; ComponentLink8Description: https://datasheet.ciiva.com/1052/2300-series-1052929.pdf?src-supplier=Digi-Key; ComponentLink9URL: https://datasheet.ciiva.com/1128/691299-1128418.pdf?src-supplier=Element14; ComponentLink9Description: https://datasheet.ciiva.com/1128/691299-1128418.pdf?src-supplier=Element14; ComponentLink10URL: https://datasheet.ciiva.com/15161/getdatasheetpartid-200326-15161029.pdf?src-supplier=Verical; ComponentLink10Description: https://datasheet.ciiva.com/15161/getdatasheetpartid-200326-15161029.pdf?src-supplier=Verical; ComponentLink11URL: https://datasheet.ciiva.com/16940/70154518-16940453.pdf?src-supplier=Allied+Electronics; ComponentLink11Description: https://datasheet.ciiva.com/16940/70154518-16940453.pdf?src-supplier=Allied+Electronics; ComponentLink12URL: https://datasheet.ciiva.com/8003/2300-series-8003654.pdf?src-supplier=Element14; ComponentLink12Description: https://datasheet.ciiva.com/8003/2300-series-8003654.pdf?src-supplier=Element14; ComponentLink13URL: https://datasheet.ciiva.com/30080/2300-series-30080252.pdf?src-supplier=Onlinecomponents.com; ComponentLink13Description: https://datasheet.ciiva.com/30080/2300-series-30080252.pdf?src-supplier=Onlinecomponents.com; ComponentLink14URL: https://datasheet.ciiva.com/3077/2300-series-3077182.pdf?src-supplier=Avnet; ComponentLink14Description: https://datasheet.ciiva.com/3077/2300-series-3077182.pdf?src-supplier=Avnet; ComponentLink15URL: https://datasheet.ciiva.com/17248/2300-series-17248990.pdf?src-supplier=Avnet+Europe; ComponentLink15Description: https://datasheet.ciiva.com/17248/2300-series-17248990.pdf?src-supplier=Avnet+Europe; Supplier Part Number 2: 1929755
footprint LTC2954_8-TSOT-23 (SOT23, 8-Leads, Body 2.9x1.75mm, Pitch 0.65mm)
pins: 1 VIN (power) "Power Supply Input: 2.7V to 26.4V", 2 ~{PB} (in) "Pushbutton Input. Connecting P\B\ to  ground through a momentary switch provides on/off  control via the EN/E\N\ and I\N\T\ outputs. An internal 100k  pull-up resistor connects to an internal 1.9V bias voltage.  The rugged (See Datasheet)", 3 ONT (in) "Turn-On Time Input. Placing an external  capacitor to ground determines the additional time (6.4  seconds/uF) the P\B\ pin must be held low before the enable  output is asserted. Floating this pin results in a default  turn (See Datasheet)", 4 GND (power) "Device Ground.", 5 ~{INT} (oc) "Open Drain Interrupt Output. After a  pushbutton turn-off event is detected (tDB,OFF ), the LTC2954  interrupts the system (uP) by asserting the I\N\T\ pin low.  The uP would perform power-down and housekeeping  tasks and (See Datasheet)", 6 ~{EN} (oc) "Open Drain Enable Output.  This pin is intended to enable system power. EN is asserted  high after a valid P\B\ turn-on event (tDB,ON + tONT). EN is  released low if: a) K\I\L\L\ is not driven high (by uP) within  512ms of (See Datasheet)", 7 PDT (in) "Power-Down Time Input. A capacitor  to ground determines the additional time (6.4 seconds/uF)  that the pushbutton must be held low before immediately  releasing the EN/E\N\ and I\N\T\ outputs. Floating this pin  results in (See Datasheet)", 8 ~{KILL} (in) "Kill Input. Forcing K\I\L\L\ low releases the  enable output. During system turn-on, this pin is blanked by  a 512ms internal timer (tK\I\L\L\,ON BLANK) to allow the system  to pull K\I\L\L\ high. This pin has an accurate 0.(See Datasheet)"